# EAGLE library part MC34063 (library mc34063)
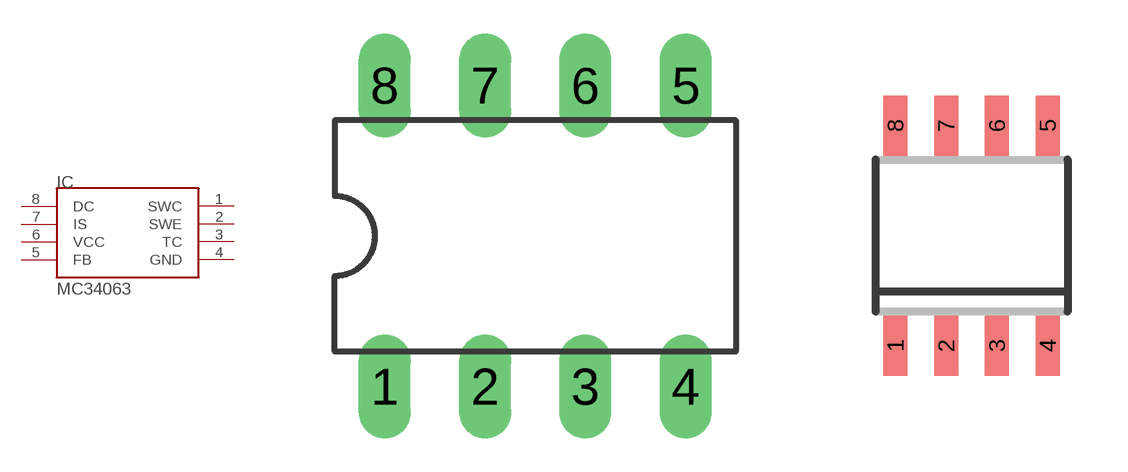
[diagram p0: symbol with the pads of DIL08; footprints DIL08, SOIC8]

Designator prefix IC

## MC34063AP  [DIL08]
1  SWC  pas
2  SWE  pas
3  TC  pas
4  GND  pas
5  FB  pas
6  VCC  pas
7  IS  pas
8  DC  pas

## MC34063AD  [SOIC8]
Pads as for DIL08

## Footprint DIL08 (pad centres in mm)
Dual In Line Package
drill 0.813 long: 1 -3.81,-3.81; 2 -1.27,-3.81; 3 1.27,-3.81; 4 3.81,-3.81; 5 3.81,3.81; 6 1.27,3.81; 7 -1.27,3.81; 8 -3.81,3.81

## Footprint SOIC8 (pad centres in mm)
Small Outline IC
smd 0.6 x 1.5: 1 -1.905,-2.75; 2 -0.635,-2.75; 3 0.635,-2.75; 4 1.905,-2.75; 5 1.905,2.75; 6 0.635,2.75; 7 -0.635,2.75; 8 -1.905,2.75